# Altium schematic symbol library PCF8574T_IO_Expanders.SchLib: 1 symbol
Pins are listed as number, name and electrical type; pins without a type are passive.

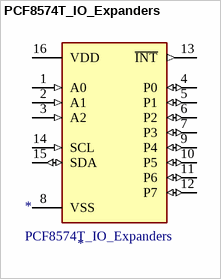
[diagram p0: symbol PCF8574T_IO_Expanders]

## PCF8574T_IO_Expanders
designator *
SO-16-300mil  I/O Expanders ROHS; LCSC: *
footprint PCF8574T_IO_Expanders
pins: 1 A0 (in), 2 A1 (in), 3 A2 (in), 4 P0 (io), 5 P1 (io), 6 P2 (io), 7 P3 (io), 8 VSS, 9 P4 (io), 10 P5 (io), 11 P6 (io), 12 P7 (io), 13 ~{INT} (out), 14 SCL (in), 15 SDA (io), 16 VDD (power)